# Altium integrated library BS170.IntLib: 1 symbol
Pins are listed as number, name and electrical type; pins without a type are passive.

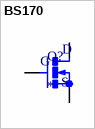
[diagram p0: symbol BS170]

## BS170
designator Q?
N-Channel 60 V 500mA (Ta) 830mW (Ta) Through Hole TO-92-3; MP: BS170; MF: ON Semiconductor; SnapEDA_Link: https://www.snapeda.com/parts/BS170/Onsemi/view-part/?ref=snap; Availability: In Stock; Purchase-URL: https://pricing.snapeda.com/search/part/BS170/?ref=eda; Value: *; Price: None; Package: E-PKG AXIAL-LEADED-2 ON Semiconductor; Check_prices: https://www.snapeda.com/parts/BS170/Onsemi/view-part/?ref=eda
footprint SOT54E
pins: D, G, S